# Altium footprint library PcbLib_Internship.PcbLib: 19 footprints (part 2 of 2)
Each footprint in its own frame and in the unit in brackets; x right, y up, seen from the top. Pads: shape width x height; smd on the part's side, far side on the other; paste and mask are expansions set on the pad; w line width, h text height; cw(c..) or ccw(c..) is an arc to the next point about the centre after c.
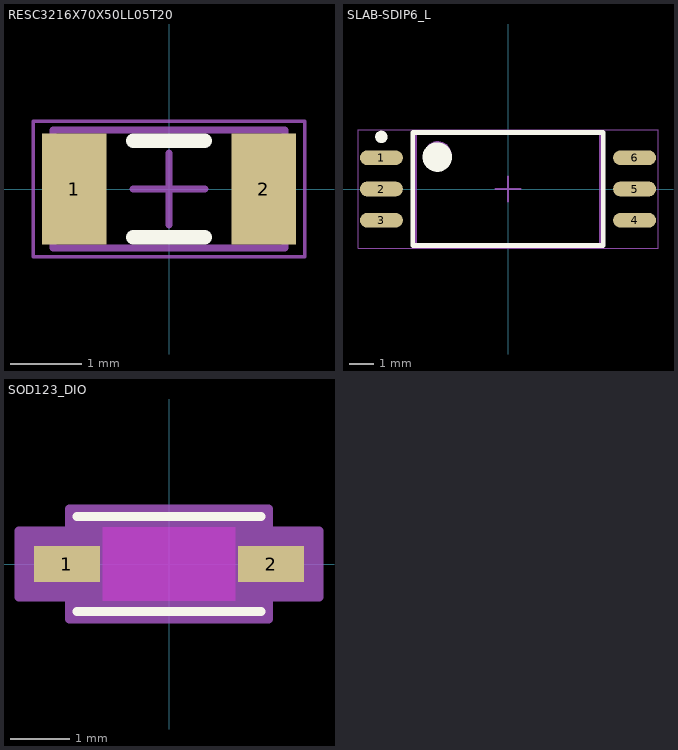
[diagram p1: the footprints below, top view; thin cyan lines are the x and y axes]

## RESC3216X70X50LL05T20 [mm] "Chip Resistor, 2-Leads, Body 3.20x1.60mm, IPC High Density"
height 0.7
pads (2):
  rect 0.9x1.55 smd: 1(-1.325,0) 2(1.325,0)
Top Overlay:
  lines w0.2: -0.5,-0.675 0.5,-0.675 ; -0.5,0.675 0.5,0.675
Mechanical 13:
  lines w0.1: -1.625,-0.825 -1.625,0.825 1.625,0.825 1.625,-0.825 -1.625,-0.825
Mechanical 15:
  lines w0.05: -1.9,-0.95 -1.9,0.95 1.9,0.95 1.9,-0.95 -1.9,-0.95
  lines w0.1: -0.5,0 0.5,0 ; 0,-0.5 0,0.5
3D body: height 0.7, standoff 0, extent -1.125,-0.825 1.125,0.825
3D body: height 0.7, standoff 0, extent -1.625,-0.825 -1.125,0.825
3D body: height 0.7, standoff 0, extent 1.125,-0.825 1.625,0.825

## SLAB-SDIP6_L [mm] "SOP, 6-Leads, Body 7.5x4.58mm, Pitch 1.27mm, IPC High Density"
height 2.65
pads (6):
  oval 1.75x0.6 smd: 1(-5.15,1.27) 2(-5.15,0) 3(-5.15,-1.27) 4(5.15,-1.27) 5(5.15,0) 6(5.15,1.27)
Top Overlay:
  circle w0.25: c-5.15,2.12 r0.125
  circle w0.6: c-2.875,1.3 r0.3
  lines w0.2: -3.875,-2.3 -3.875,2.3 3.875,2.3 3.875,-2.3 -3.875,-2.3
Mechanical 13:
  circle w0.1: c-2.85,1.4 r0.5
  lines w0.1: -3.75,-2.3 -3.75,2.3 3.75,2.3 3.75,-2.3 -3.75,-2.3
Mechanical 15:
  lines w0.05: -6.1,-2.4 -6.1,2.4 6.1,2.4 6.1,-2.4 -6.1,-2.4
  lines w0.1: -0.5,0 0.5,0 ; 0,-0.5 0,0.5
3D body: height 2.65, standoff 0.1, extent -3.75,-2.3 3.75,2.3

## SOD123_DIO [mm]
pads (2):
  rect 1.111x0.601 smd paste+0 mask+0: 1(-1.725,0) 2(1.725,0)
Top Overlay:
  lines w0.152: -1.552,-0.802 1.552,-0.802 ; -1.552,0.802 1.552,0.802
Keep-Out Layer:
  region: -1.119,-0.624 -1.119,0.624 1.119,0.624 1.119,-0.624
Mechanical 13:
  lines w0.025: -1.425,-0.337 -1.087,-0.675 ; -1.425,0.337 -1.087,0.675 ; -1.925,-0.275 -1.925,0.275 -1.425,0.275 -1.425,-0.275 -1.925,-0.275 ; -1.425,-0.675 1.425,-0.675 1.425,0.675 -1.425,0.675 -1.425,-0.675 ; 1.425,-0.275 1.425,0.275 1.925,0.275 1.925,-0.275 1.425,-0.275
  text "*" at -1.488,-0.635 h1.27
Mechanical 15:
  region: -1.679,-0.554 -2.535,-0.554 -2.535,0.554 -1.679,0.554 -1.679,0.929 1.679,0.929 1.679,0.554 2.535,0.554 2.535,-0.554 1.679,-0.554 1.679,-0.929 -1.679,-0.929
  lines w0.152: -2.535,-0.554 -2.535,0.554 -1.679,0.554 -1.679,0.929 1.679,0.929 1.679,0.554 2.535,0.554 2.535,-0.554 1.679,-0.554 1.679,-0.929 -1.679,-0.929 -1.679,-0.554 -2.535,-0.554
3D body "SOD123_DIO.step": height 0.81, standoff 0, extent -1.925,-0.675 1.925,0.675